# Altium schematic symbol library schem_lib.SchLib: 16 symbols
Pins are listed as number, name and electrical type; pins without a type are passive.

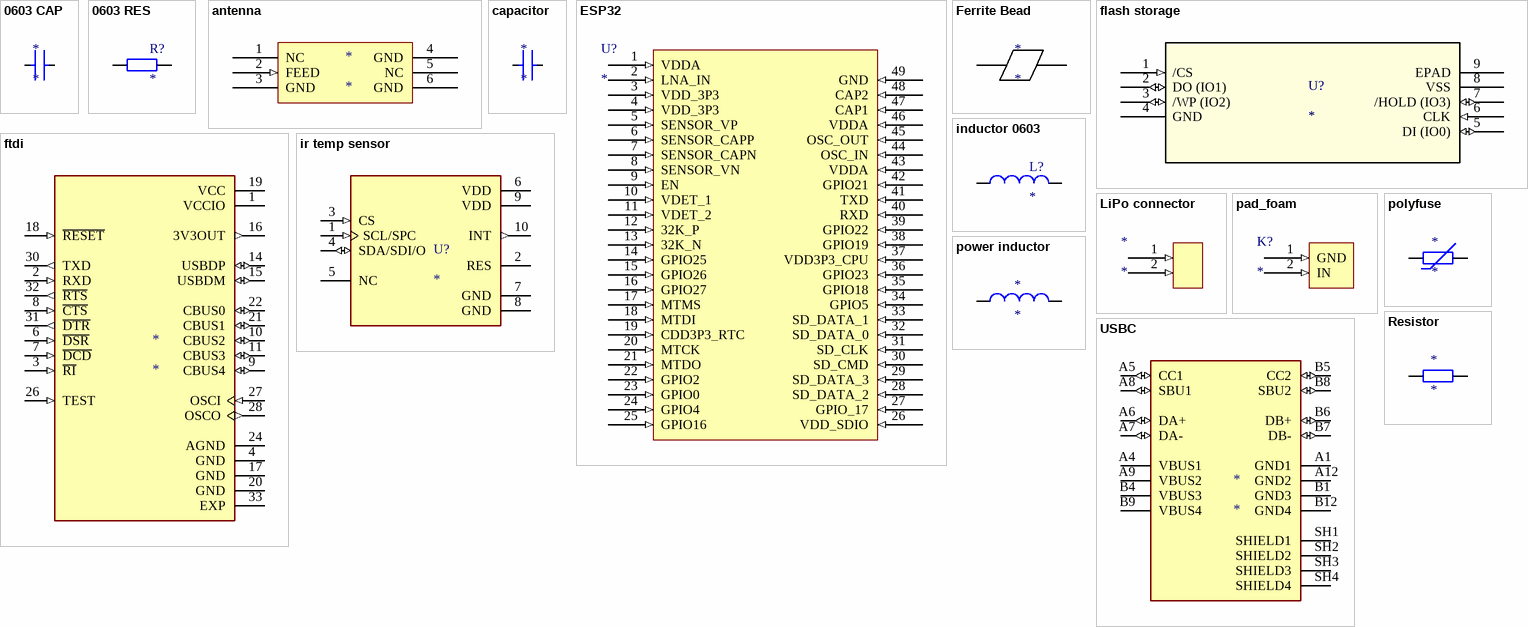
[diagram p0: symbols 0603 CAP to USBC]

## 0603 CAP
designator *
footprint 0603 CAP
pins: 1, 2

## 0603 RES
designator R?
footprint 0603 PASSIVE
pins: 1, 2

## antenna
designator *
footprint BLE/WIFI antenna
pins: 1 NC, 2 FEED (in), 3 GND (power), 4 GND (power), 5 NC, 6 GND (power)

## capacitor
designator *
footprint 0402 CAP
pins: 1, 2

## ESP32
designator U?
footprint esp32
pins: 1 VDDA (in), 2 LNA_IN (in), 3 VDD_3P3 (in), 4 VDD_3P3 (in), 5 SENSOR_VP (in), 6 SENSOR_CAPP (in), 7 SENSOR_CAPN (in), 8 SENSOR_VN (in), 9 EN (in), 10 VDET_1 (in), 11 VDET_2 (in), 12 32K_P (in), 13 32K_N (in), 14 GPIO25 (in), 15 GPIO26 (in), 16 GPIO27 (in), 17 MTMS (in), 18 MTDI (in), 19 CDD3P3_RTC (in), 20 MTCK (in), 21 MTDO (in), 22 GPIO2 (in), 23 GPIO0 (in), 24 GPIO4 (in), 25 GPIO16 (in), 26 VDD_SDIO (in), 27 GPIO_17 (in), 28 SD_DATA_2 (in), 29 SD_DATA_3 (in), 30 SD_CMD (in), 31 SD_CLK (in), 32 SD_DATA_0 (in), 33 SD_DATA_1 (in), 34 GPIO5 (in), 35 GPIO18 (in), 36 GPIO23 (in), 37 VDD3P3_CPU (in), 38 GPIO19 (in), 39 GPIO22 (in), 40 RXD (in), 41 TXD (in), 42 GPIO21 (in), 43 VDDA (in), 44 OSC_IN (in), 45 OSC_OUT (in), 46 VDDA (in), 47 CAP1 (in), 48 CAP2 (in), 49 GND (in)

## Ferrite Bead
designator *
footprint 0603 Inductor
pins: 1, 2

## flash storage
designator U?
footprint flash storage
pins: 1 /CS (in), 2 DO (IO1) (io), 3 /WP (IO2) (io), 4 GND (power), 5 DI (IO0) (io), 6 CLK (in), 7 /HOLD (IO3) (io), 8 VSS (power), 9 EPAD (power)

## ftdi
designator *
footprint ftdi
pins: 1 VCCIO (power), 2 RXD (in), 3 ~{RI} (in), 4 GND (power), 6 ~{DSR} (in), 7 ~{DCD} (in), 8 ~{CTS} (in), 9 CBUS4 (io), 10 CBUS2 (io), 11 CBUS3 (io), 14 USBDP (io), 15 USBDM (io), 16 3V3OUT (out), 17 GND (power), 18 ~{RESET} (in), 19 VCC (power), 20 GND (power), 21 CBUS1 (io), 22 CBUS0 (io), 24 AGND (power), 26 TEST (in), 27 OSCI (in), 28 OSCO (out), 30 TXD (out), 31 ~{DTR} (out), 32 ~{RTS} (out), 33 EXP (power)

## inductor 0603
designator L?
footprint 0603 Inductor
pins: 1, 2

## ir temp sensor
designator U?
footprint IR temp sensor
pins: 1 SCL/SPC (in), 2 RES, 3 CS (in), 4 SDA/SDI/O (io), 5 NC, 6 VDD (power), 7 GND (power), 8 GND (power), 9 VDD (power), 10 INT (out)

## LiPo connector
designator *
footprint LiPo JST
pins: 1 (in), 2 (in)

## pad_foam
designator K?
footprint pad_elastomer
pins: 1 GND (in), 2 IN (in)

## polyfuse
designator *
footprint s
pins: 1, 2

## power inductor
designator *
footprint power inductor
pins: 1, 2

## Resistor
designator *
footprint 0402 RES
pins: 1, 2

## USBC
designator *
footprint usbc
pins: A1 GND1 (power), A4 VBUS1 (power), A5 CC1 (io), A6 DA+ (io), A7 DA- (io), A8 SBU1 (io), A9 VBUS2 (power), A12 GND2 (power), B1 GND3 (power), B4 VBUS3 (power), B5 CC2 (io), B6 DB+ (io), B7 DB- (io), B8 SBU2 (io), B9 VBUS4 (power), B12 GND4 (power), SH1 SHIELD1, SH2 SHIELD2, SH3 SHIELD3, SH4 SHIELD4